# Altium footprint library SJ1-3523N.PcbLib: 1 footprints
Each footprint in its own frame and in the unit in brackets; x right, y up, seen from the top. Pads: shape width x height; smd on the part's side, far side on the other; paste and mask are expansions set on the pad; w line width, h text height; cw(c..) or ccw(c..) is an arc to the next point about the centre after c.
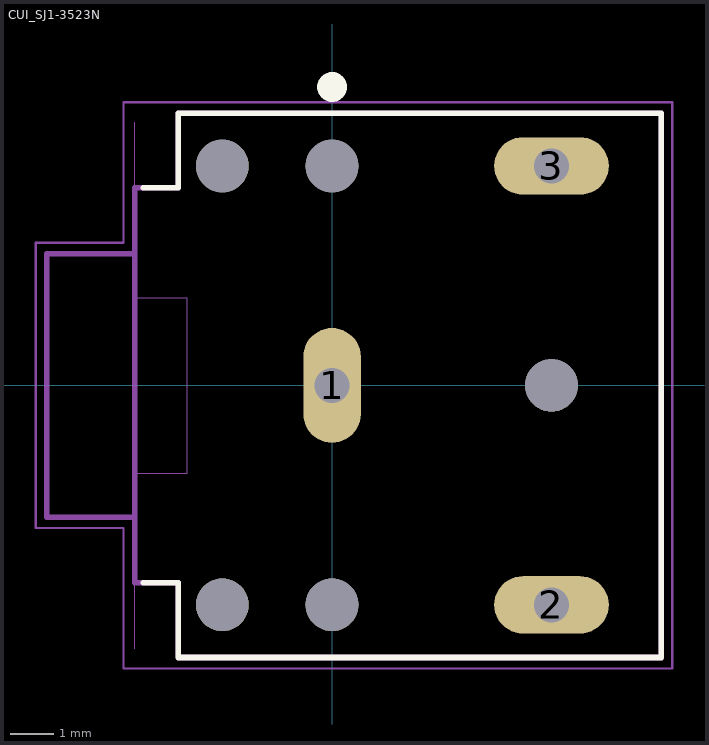
[diagram p0: the footprint, top view; thin cyan lines are the x and y axes]

## CUI_SJ1-3523N [mm]
pads (8):
  oval 1.308x2.616 hole 0.8 square: 1(0,0)
  oval 2.616x1.308 hole 0.8 square: 2(5,-5) 3(5,5)
  round 1.2 hole 1.2 unplated: ""(-2.5,-5) ""(-2.5,5) ""(0,-5) ""(0,5) ""(5,0)
Top Overlay:
  circle w0.34: c0,6.8 r0.17
  lines w0.127: -4.3,-4.5 -3.5,-4.5 -3.5,-6.2 7.5,-6.2 7.5,6.2 -3.5,6.2 -3.5,4.5 -4.3,4.5
Mechanical 1:
  lines w0: -4.5,-6 -4.5,-2 -3.3,-2 -3.3,2 -4.5,2 -4.5,6
Mechanical 13:
  lines w0.127: -4.5,-3 -6.5,-3 -6.5,3 -4.5,3 ; -4.5,-3 -4.5,-4.5 -3.5,-4.5 -3.5,-6.2 7.5,-6.2 7.5,6.2 -3.5,6.2 -3.5,4.5 -4.5,4.5 -4.5,3 ; -4.5,-3 -4.5,3
  text "PCB edge" at -12.525,6.012 h1.02
Mechanical 15:
  lines w0.05: -6.75,-3.25 -4.75,-3.25 -4.75,-6.45 7.75,-6.45 7.75,6.45 -4.75,6.45 -4.75,3.25 -6.75,3.25 -6.75,-3.25